# Altium footprint library KeetV2.PcbLib: 42 footprints (part 2 of 3)
Each footprint in its own frame and in the unit in brackets; x right, y up, seen from the top. Pads: shape width x height; smd on the part's side, far side on the other; paste and mask are expansions set on the pad; w line width, h text height; cw(c..) or ccw(c..) is an arc to the next point about the centre after c.
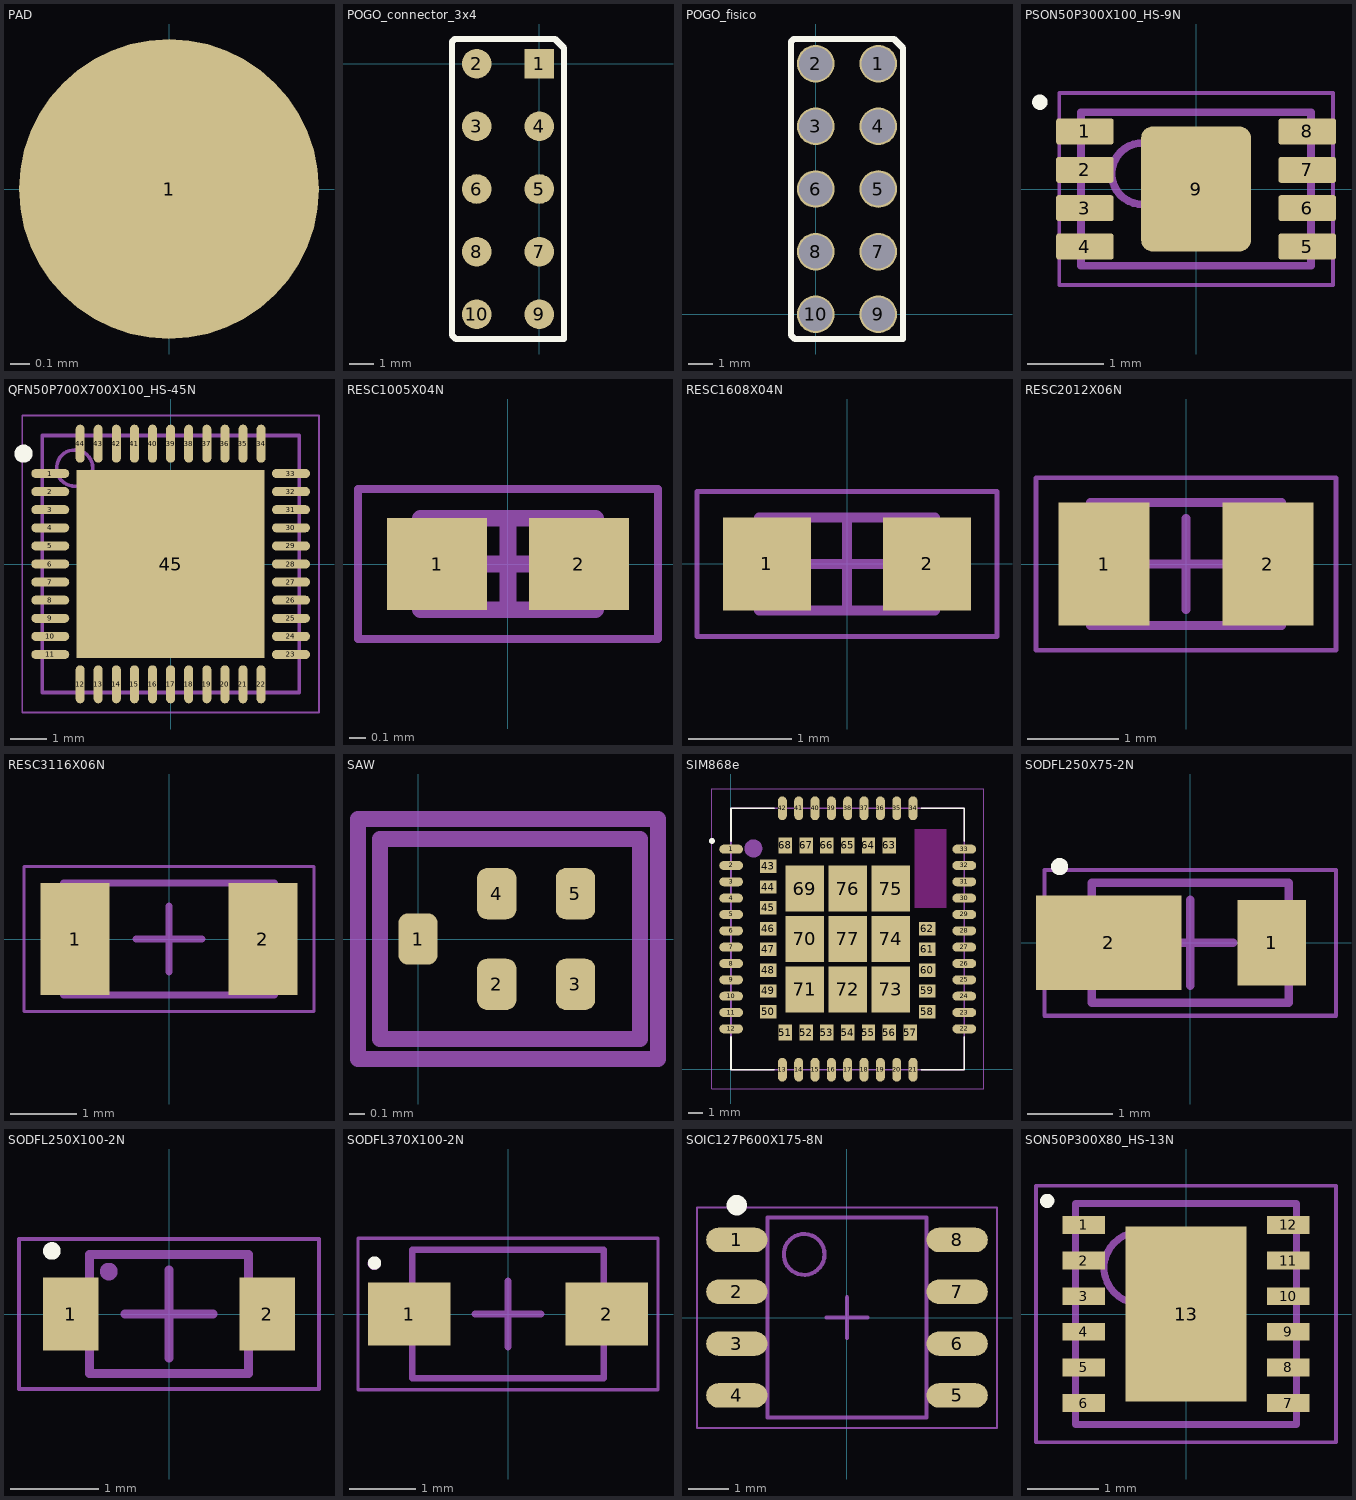
[diagram p1: the footprints below, top view; thin cyan lines are the x and y axes]

## PAD [mil]
pads (1):
  round 60 smd: 1(0,0)
Top Designator:
  text ".Designator" at -299.9,-19.99 h60

## POGO_connector_3x4 [mm]
pads (10):
  rect 1.2x1.2 smd: 1(0,0)
  round 1.2 smd: 2(-2.54,0) 3(-2.54,-2.54) 4(0,-2.54) 5(0,-5.08) 6(-2.54,-5.08) 7(0,-7.62) 8(-2.54,-7.62) 9(0,-10.16) 10(-2.54,-10.16)
Top Overlay:
  lines w0.254: -3.54,-11.001 -3.381,-11.16 1,-11.16 1,0.635 0.635,1 -3.429,1 -3.54,0.889 -3.54,-11.001
Top Designator:
  text ".Designator" at -8.888,-5.588 h1.52

## POGO_fisico [mil] "questo è il pogo fisico. l'altro pogo è l'impronta di questo"
height 332.01
pads (10):
  round 60 hole 53.15: 1(100,400) 2(0,400) 3(0,300) 4(100,300) 5(100,200) 6(0,200) 7(100,100) 8(0,100) 9(100,0) 10(0,0)
Top Overlay:
  lines w10: -39.37,-33.11 -33.11,-39.37 139.37,-39.37 139.37,425 125,439.37 -35,439.37 -39.37,435 -39.37,-33.11
Top Designator:
  text ".Designator" at -249.9,180.01 h60
3D body "mill-max-827-22-010-10-020101.step": height 331.54, standoff -115.46, extent -50,-49.43 150,450.57

## PSON50P300X100_HS-9N [mm] "PSON, 8-Leads, Body 2,00x3,00mm, Pitch 0,50mm, Thermal Pad 1,63x1,43mm, IPC Medium Density"
height 1
pads (9):
  rrect20% 0.75x0.34 smd: 1(-1.45,0.75) 2(-1.45,0.25) 3(-1.45,-0.25) 4(-1.45,-0.75) 5(1.45,-0.75) 6(1.45,-0.25) 7(1.45,0.25) 8(1.45,0.75)
  rrect20% 1.43x1.63 smd: 9(0,0)
Top Overlay:
  circle w0.1: c-2.037,1.132 r0.05
Top Courtyard:
  lines w0.05: -1.785,-1.25 -1.785,1.25 1.785,1.25 1.785,-1.25 -1.785,-1.25
  lines w0.1: -0.5,0 0.5,0 ; 0,-0.5 0,0.5
Top Assembly:
  circle w0.1: c-0.7,0.2 r0.4
  lines w0.1: -1.5,-1 -1.5,1 1.5,1 1.5,-1 -1.5,-1
3D body "PSON50P300X100_HS-9N-2.step": height 1, standoff 0, extent -1.501,-1 1.501,1

## QFN50P700X700X100_HS-45N [mm] "QFN, 44-Leads, Body 7,00x7,00mm, Pitch 0,50mm, Thermal Pad 5,20x5,20mm, IPC Medium Density"
height 1
pads (45):
  oval 1.05x0.25 smd: 1(-3.325,2.5) 2(-3.325,2) 3(-3.325,1.5) 4(-3.325,1) 5(-3.325,0.5) 6(-3.325,0) 7(-3.325,-0.5) 8(-3.325,-1) 9(-3.325,-1.5) 10(-3.325,-2) 11(-3.325,-2.5) 23(3.325,-2.5) 24(3.325,-2) 25(3.325,-1.5) 26(3.325,-1) 27(3.325,-0.5) 28(3.325,0) 29(3.325,0.5) 30(3.325,1) 31(3.325,1.5) 32(3.325,2) 33(3.325,2.5)
  oval 0.25x1.05 smd: 12(-2.5,-3.325) 13(-2,-3.325) 14(-1.5,-3.325) 15(-1,-3.325) 16(-0.5,-3.325) 17(0,-3.325) 18(0.5,-3.325) 19(1,-3.325) 20(1.5,-3.325) 21(2,-3.325) 22(2.5,-3.325) 34(2.5,3.325) 35(2,3.325) 36(1.5,3.325) 37(1,3.325) 38(0.5,3.325) 39(0,3.325) 40(-0.5,3.325) 41(-1,3.325) 42(-1.5,3.325) 43(-2,3.325) 44(-2.5,3.325)
  rect 5.2x5.2 smd: 45(0,0)
Top Overlay:
  circle w0.25: c-4.064,3.048 r0.125
  lines w0: 0,0 0,-2.075 0,0 ; 0,0 2.075,0 0,0 ; 0,0 -2.075,0 0,0 ; 0,0 0,2.075 0,0
Top Courtyard:
  lines w0.05: -4.1,-4.1 -4.1,4.1 4.1,4.1 4.1,-4.1 -4.1,-4.1
  lines w0.1: -0.5,0 0.5,0 ; 0,-0.5 0,0.5
Top Assembly:
  circle w0.1: c-2.65,2.65 r0.5
  lines w0.1: -3.55,-3.55 -3.55,3.55 3.55,3.55 3.55,-3.55 -3.55,-3.55
Top Designator:
  text ".Designator" at -7.618,-0.508 h1.52
3D body "QFN50P700X700X100_HS-45N.step": height 1, standoff 0, extent -3.57,-3.57 3.57,3.57

## RESC1005X04N [mm] "Chip Resistor, 0402, 2-Leads, Body 1,00x0,50mm, IPC Medium Density"
height 0.37
pads (2):
  rect 0.6x0.55 smd: 1(-0.425,0) 2(0.425,0)
Top Courtyard:
  lines w0.05: -0.9,-0.45 -0.9,0.45 0.9,0.45 0.9,-0.45 -0.9,-0.45
  lines w0.1: -0.275,0 0.275,0 ; 0,-0.275 0,0.275
Top Assembly:
  lines w0.1: -0.525,-0.275 -0.525,0.275 0.525,0.275 0.525,-0.275 -0.525,-0.275
Top Designator:
  text ".Designator" at -7.618,-0.508 h1.52
3D body "RESC1005X04N.step": height 0.37, standoff 0, extent -0.525,-0.275 0.525,0.275

## RESC1608X04N [mm] "Chip Resistor, 0603, 2-Leads, Body 1,60x0,80mm, IPC Medium Density"
height 0.4
pads (2):
  rect 0.85x0.9 smd: 1(-0.775,0) 2(0.775,0)
Top Courtyard:
  lines w0.05: -1.45,-0.7 -1.45,0.7 1.45,0.7 1.45,-0.7 -1.45,-0.7
  lines w0.1: -0.45,0 0.45,0 ; 0,-0.45 0,0.45
Top Assembly:
  lines w0.1: -0.85,-0.45 -0.85,0.45 0.85,0.45 0.85,-0.45 -0.85,-0.45
Top Designator:
  text ".Designator" at -7.618,-0.508 h1.52
3D body "RESC1608X04N.step": height 0.4, standoff 0, extent -0.85,-0.45 0.85,0.45

## RESC2012X06N [mm] "Chip Resistor, 0805, 2-Leads, Body 2,00x1,25mm, IPC Medium Density"
height 0.6
pads (2):
  rect 1x1.35 smd: 1(-0.9,0) 2(0.9,0)
Top Courtyard:
  lines w0.05: -1.65,-0.95 1.65,-0.95 1.65,0.95 -1.65,0.95 -1.65,-0.95
  lines w0.1: -0.5,0 0.5,0 ; 0,-0.5 0,0.5
Top Assembly:
  lines w0.1: -1.05,-0.675 1.05,-0.675 1.05,0.675 -1.05,0.675 -1.05,-0.675
Top Designator:
  text ".Designator" at -7.618,-0.508 h1.52
3D body "RESC2012X06N.step": height 0.6, standoff 0, extent -1.05,-0.675 1.05,0.675

## RESC3116X06N [mm] "Chip Resistor, 2-Leads, Body 3,10x1,60mm, IPC Medium Density"
height 0.65
pads (2):
  rect 1.05x1.7 smd: 1(-1.425,0) 2(1.425,0)
Top Courtyard:
  lines w0.05: -2.2,-1.1 -2.2,1.1 2.2,1.1 2.2,-1.1 -2.2,-1.1
  lines w0.1: -0.5,0 0.5,0 ; 0,-0.5 0,0.5
Top Assembly:
  lines w0.1: -1.6,-0.85 -1.6,0.85 1.6,0.85 1.6,-0.85 -1.6,-0.85
Top Designator:
  text ".Designator" at -7.618,-0.508 h1.52
3D body "RESC3116X06N.step": height 0.65, standoff 0, extent -1.6,-0.85 1.6,0.85

## SAW [mm] "filtro saw"
height 0.7
pads (5):
  rrect50% 0.25x0.325 smd: 1(0,0) 2(0.5,-0.288) 3(1,-0.288) 4(0.5,0.288) 5(1,0.288)
Top Courtyard:
  lines w0.1: -0.381,-0.762 -0.381,0.762 1.524,0.762 1.524,-0.762 -0.381,-0.762
Top Assembly:
  lines w0.1: -0.242,-0.635 -0.242,0.635 1.409,0.635 1.409,-0.635 -0.242,-0.635
Top Designator:
  text ".Designator" at -6.856,-0.508 h1.52
3D body: height 0.7, standoff 0, extent -0.242,-0.64 1.397,0.636

## SIM868e [mm]
height 2.5
pads (77):
  oval 1.6x0.6 smd: 1(0.024,14.813) 2(0.024,13.713) 3(0.024,12.613) 4(0.024,11.513) 5(0.024,10.413) 6(0.024,9.313) 7(0.024,8.213) 8(0.024,7.113) 9(0.024,6.013) 10(0.024,4.913) 11(0.024,3.813) 12(0.024,2.713) 22(15.724,2.713) 23(15.724,3.813) 24(15.724,4.913) 25(15.724,6.013) 26(15.724,7.113) 27(15.724,8.213) 28(15.724,9.313) 29(15.724,10.413) 30(15.724,11.513) 31(15.724,12.613) 32(15.724,13.713) 33(15.724,14.813)
  oval 0.6x1.6 smd: 13(3.474,-0.037) 14(4.574,-0.037) 15(5.674,-0.037) 16(6.774,-0.037) 17(7.874,-0.037) 18(8.974,-0.037) 19(10.074,-0.037) 20(11.174,-0.037) 21(12.274,-0.037) 34(12.274,17.563) 35(11.174,17.563) 36(10.074,17.563) 37(8.974,17.563) 38(7.874,17.563) 39(6.774,17.563) 40(5.674,17.563) 41(4.574,17.563) 42(3.474,17.563)
  rect 1.1x0.9 smd paste-2: 43(2.524,13.663) 44(2.524,12.263) 45(2.524,10.863) 46(2.524,9.463) 47(2.524,8.063) 48(2.524,6.663) 49(2.524,5.263) 50(2.524,3.863) 58(13.224,3.863) 59(13.224,5.263) 60(13.224,6.663) 61(13.224,8.063) 62(13.224,9.463)
  rect 0.9x1.1 smd paste-2: 51(3.674,2.463) 52(5.074,2.463) 53(6.474,2.463) 54(7.874,2.463) 55(9.274,2.463) 56(10.674,2.463) 57(12.074,2.463) 63(10.674,15.063) 64(9.274,15.063) 65(7.874,15.063) 66(6.474,15.063) 67(5.074,15.063) 68(3.674,15.063)
  rect 2.6x3.1 smd paste-3: 69(4.974,12.163) 70(4.974,8.763) 71(4.974,5.363) 72(7.874,5.363) 73(10.774,5.363) 74(10.774,8.763) 75(10.774,12.163) 76(7.874,12.163) 77(7.874,8.763)
Top Overlay:
  circle w0.2: c-1.27,15.367 r0.1
  lines w0.127: 0.024,2.163 0.024,-0.037 2.924,-0.037 ; 0.024,15.363 0.024,17.563 2.924,17.563 ; 12.824,-0.037 15.724,-0.037 15.724,2.163 ; 12.824,17.563 15.724,17.563 15.724,15.363
Top Paste:
  drawing of 140 lines, arcs and shapes, not listed
Keep-Out Layer:
  region: 14.524,10.867 12.382,10.867 12.382,16.163 14.524,16.163
  region: 14.524,10.865 12.378,10.865 12.378,16.163 14.524,16.163
  region: 14.524,10.864 12.376,10.864 12.376,16.163 14.524,16.163
Top Courtyard:
  lines w0.05: -1.276,-1.337 17.024,-1.337 17.024,18.863 -1.276,18.863 -1.276,-1.337
Top Assembly:
  circle w0.6: c1.524,14.859 r0.3
  lines w0.127: 0.024,-0.037 15.724,-0.037 15.724,17.563 0.024,17.563 0.024,-0.037
Top Designator:
  text ".Designator" at 0.256,8.255 h1.52
3D body "SIM868e_3D.STEP": height 2.6, standoff 0, extent 0,0 15.7,17.6

## SODFL250X75-2N [mm] "SODFL, 2-Leads, Body 1,27x2,50mm, IPC Medium Density"
height 0.75
pads (2):
  rect 0.8x1 smd: 1(0.95,0)
  rect 1.7x1.1 smd: 2(-0.95,0)
Top Overlay:
  circle w0.1: c-1.524,0.889 r0.05
Top Courtyard:
  lines w0.05: -1.7,-0.85 -1.7,0.85 1.7,0.85 1.7,-0.85 -1.7,-0.85
  lines w0.1: -0.5,0 0.5,0 ; 0,-0.5 0,0.5
Top Assembly:
  circle w0.1: c-0.828,0.383 r0.05
  lines w0.1: -1.15,-0.7 -1.15,0.7 1.15,0.7 1.15,-0.7 -1.15,-0.7
Top Designator:
  text ".Designator" at -7.618,-0.508 h1.52
3D body "SODFL250X75-2N.step": height 0.75, standoff 0, extent -1.25,-0.7 1.25,0.7

## SODFL250X100-2N [mm] "SODFL, 2-Leads, Body 1,25x2,50mm, IPC Medium Density"
height 1
pads (2):
  rect 0.63x0.83 smd: 1(-1.112,0) 2(1.112,0)
Top Overlay:
  circle w0.1: c-1.328,0.715 r0.05
Top Courtyard:
  lines w0.05: -1.7,-0.85 -1.7,0.85 1.7,0.85 1.7,-0.85 -1.7,-0.85
  lines w0.1: -0.5,0 0.5,0 ; 0,-0.5 0,0.5
Top Assembly:
  circle w0.1: c-0.683,0.481 r0.05
  lines w0.1: -0.9,-0.675 -0.9,0.675 0.9,0.675 0.9,-0.675 -0.9,-0.675
Top Designator:
  text ".Designator" at -7.618,-0.508 h1.52
3D body "SODFL250X100-2N.step": height 1, standoff 0, extent -1.25,-0.675 1.25,0.675

## SODFL370X100-2N [mm] "SODFL, 2-Leads, Body 1,85x3,70mm, IPC Medium Density"
height 1
pads (2):
  rect 1.25x0.95 smd: 1(-1.5,0) 2(1.5,0)
Top Overlay:
  circle w0.1: c-2.025,0.775 r0.05
Top Courtyard:
  lines w0.05: -2.275,-1.15 -2.275,1.15 2.275,1.15 2.275,-1.15 -2.275,-1.15
  lines w0.1: -0.5,0 0.5,0 ; 0,-0.5 0,0.5
Top Assembly:
  circle w0.1: c-2.028,0.768 r0.05
  lines w0.1: -1.45,-0.975 -1.45,0.975 1.45,0.975 1.45,-0.975 -1.45,-0.975
Top Designator:
  text ".Designator" at -7.618,-0.508 h1.52
3D body "SODFL370X100-2N.step": height 1, standoff 0, extent -1.85,-0.975 1.85,0.975

## SOIC127P600X175-8N [mm] "SOIC, 8-Leads, Body 4,90x3,90mm, Pitch 1,27mm, IPC Medium Density"
height 1.75
pads (8):
  oval 1.5x0.6 smd: 1(-2.7,1.905) 2(-2.7,0.635) 3(-2.7,-0.635) 4(-2.7,-1.905) 5(2.7,-1.905) 6(2.7,-0.635) 7(2.7,0.635) 8(2.7,1.905)
Top Overlay:
  circle w0.25: c-2.7,2.755 r0.125
Top Courtyard:
  lines w0.05: -3.675,-2.7 -3.675,2.7 3.675,2.7 3.675,-2.7 -3.675,-2.7
  lines w0.1: -0.5,0 0.5,0 ; 0,-0.5 0,0.5
Top Assembly:
  circle w0.1: c-1.05,1.55 r0.5
  lines w0.1: -1.95,-2.45 -1.95,2.45 1.95,2.45 1.95,-2.45 -1.95,-2.45
Top Designator:
  text ".Designator" at -7.618,-0.508 h1.52
3D body "SOIC127P600X175-8N.step": height 1.75, standoff 0, extent -3,-2.45 3,2.45

## SON50P300X80_HS-13N [mm] "SON, 12-Leads, Body 3,00x3,00mm, Pitch 0,50mm, Thermal Pad 2,45x1,70mm, IPC Medium Density"
height 0.8
pads (13):
  rect 0.6x0.25 smd: 1(-1.435,1.25) 2(-1.435,0.75) 3(-1.435,0.25) 4(-1.435,-0.25) 5(-1.435,-0.75) 6(-1.435,-1.25) 7(1.435,-1.25) 8(1.435,-0.75) 9(1.435,-0.25) 10(1.435,0.25) 11(1.435,0.75) 12(1.435,1.25)
  rect 1.7x2.45 smd: 13(0,0)
Top Overlay:
  circle w0.1: c-1.947,1.587 r0.05
Top Courtyard:
  lines w0.05: -2.105,-1.8 2.105,-1.8 2.105,1.8 -2.105,1.8 -2.105,-1.8
  lines w0.1: -0.5,0 0.5,0 ; 0,-0.5 0,0.5
Top Assembly:
  circle w0.1: c-0.65,0.65 r0.5
  lines w0.1: -1.55,-1.55 1.55,-1.55 1.55,1.55 -1.55,1.55 -1.55,-1.55
Top Designator:
  text ".Designator" at -7.618,-0.508 h1.52
3D body "SON50P300X80_HS-13N.step": height 0.8, standoff 0, extent -1.55,-1.55 1.55,1.55